# EAGLE library part AT24CS (library AT24CS)
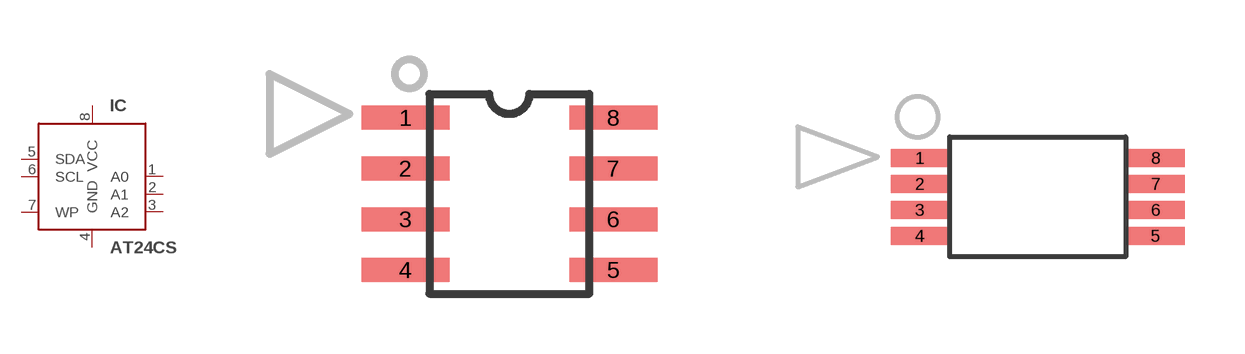
[diagram p0: symbol with the pads of SOIC8; footprints SOIC8, TSSOP-8]

Designator prefix IC

## AT24CS01-8S1 (ADDRESS: 0xA0), AT24CS02-8S1 (ADDRESS: 0xA0)  [SOIC8]
1  A0  in
2  A1  in
3  A2  in
4  GND  in
5  SDA  in
6  SCL  in
7  WP  in
8  VCC  in

## AT24CS01-8X (ADDRESS: 0xA0), AT24CS02-8X (ADDRESS: 0xA0)  [TSSOP-8]
Pads as for SOIC8

## AT24CS01-8MA2 (ADDRESS: 0xA0), AT24CS02-8MA2 (ADDRESS: 0xA0)  [UDFN-8-0.5]
Pads as for SOIC8

## Footprint SOIC8 (pad centres in mm)
smd 2.2 x 0.6: 1 -2.6,1.905; 2 -2.6,0.635; 3 -2.6,-0.635; 4 -2.6,-1.905; 5 2.6,-1.905; 6 2.6,-0.635; 7 2.6,0.635; 8 2.6,1.905

## Footprint TSSOP-8 (pad centres in mm)
smd 1.45 x 0.45: 1 -2.95,0.975; 2 -2.95,0.325; 3 -2.95,-0.325; 4 -2.95,-0.975; 5 2.95,-0.975; 6 2.95,-0.325; 7 2.95,0.325; 8 2.95,0.975

## Footprint UDFN-8-0.5 (pad centres in mm)
smd 0.75 x 0.3: 1 -1.45,0.75; 2 -1.45,0.25; 3 -1.45,-0.25; 4 -1.45,-0.75; 5 1.45,-0.75; 6 1.45,-0.25; 7 1.45,0.25; 8 1.45,0.75
smd 1.75 x 1.45: PAD 0,0